# EAGLE library part STEPPER_DRIVER (library Mylib)
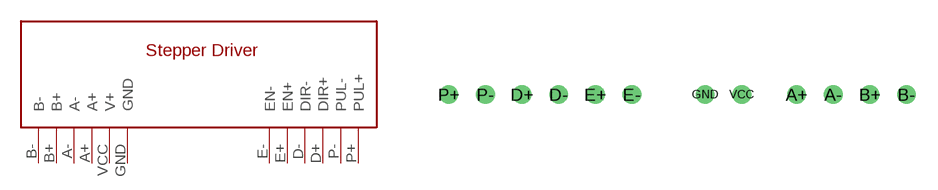
[diagram p4: symbol with the pads of STEPPER_DRIVER; footprint STEPPER_DRIVER]

Designator prefix -

## STEPPER_DRIVER  [STEPPER_DRIVER]
A+  A+
A-  A-
B+  B+
B-  B-
D+  DIR+
D-  DIR-
E+  EN+
E-  EN-
GND  GND
P+  PUL+
P-  PUL-
VCC  V+

## Footprint STEPPER_DRIVER (pad centres in mm)
drill 0.8: A+ 5.08,1.27; A- 7.62,1.27; B+ 10.16,1.27; B- 12.7,1.27; D+ -13.97,1.27; D- -11.43,1.27; E+ -8.89,1.27; E- -6.35,1.27; GND -1.27,1.27; P+ -19.05,1.27; P- -16.51,1.27; VCC 1.27,1.27